# Altium schematic symbol library PCMCIA68.SchLib: 1 symbol
Pins are listed as number, name and electrical type; pins without a type are passive.

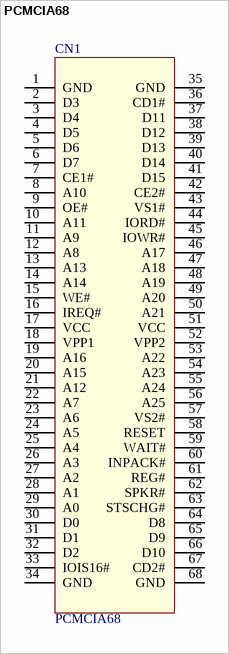
[diagram p0: symbol PCMCIA68]

## PCMCIA68
designator CN1
footprint PCMCIA_68pin_F
pins: 1 GND, 2 D3, 3 D4, 4 D5, 5 D6, 6 D7, 7 CE1#, 8 A10, 9 OE#, 10 A11, 11 A9, 12 A8, 13 A13, 14 A14, 15 WE#, 16 IREQ#, 17 VCC, 18 VPP1, 19 A16, 20 A15, 21 A12, 22 A7, 23 A6, 24 A5, 25 A4, 26 A3, 27 A2, 28 A1, 29 A0, 30 D0, 31 D1, 32 D2, 33 IOIS16#, 34 GND, 35 GND, 36 CD1#, 37 D11, 38 D12, 39 D13, 40 D14, 41 D15, 42 CE2#, 43 VS1#, 44 IORD#, 45 IOWR#, 46 A17, 47 A18, 48 A19, 49 A20, 50 A21, 51 VCC, 52 VPP2, 53 A22, 54 A23, 55 A24, 56 A25, 57 VS2#, 58 RESET, 59 WAIT#, 60 INPACK#, 61 REG#, 62 SPKR#, 63 STSCHG#, 64 D8, 65 D9, 66 D10, 67 CD2#, 68 GND